# Altium footprint library Through Hole Resistors.PcbLib: 1 footprints
Each footprint in its own frame and in the unit in brackets; x right, y up, seen from the top. Pads: shape width x height; smd on the part's side, far side on the other; paste and mask are expansions set on the pad; w line width, h text height; cw(c..) or ccw(c..) is an arc to the next point about the centre after c.
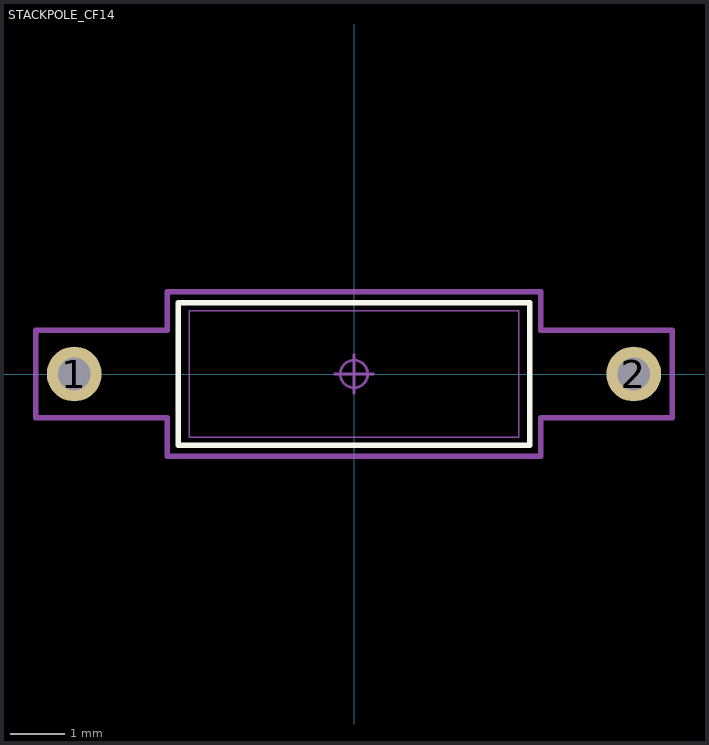
[diagram p0: the footprint, top view; thin cyan lines are the x and y axes]

## STACKPOLE_CF14 [mm]
pads (2):
  round 1 hole 0.6 mask+0.04: 1(-5.1,0) 2(5.1,0)
Top Overlay:
  lines w0.1: -3.2,-1.3 3.2,-1.3 3.2,1.3 -3.2,1.3 -3.2,-1.3
Mechanical 1:
  lines w0.025: -3,-1.15 -3,1.15 3,1.15 3,-1.15 -3,-1.15
Mechanical 15:
  circle w0.05: c0,0 r0.25
  lines w0.05: -0.35,0 0.35,0 ; 0,-0.35 0,0.35
  lines w0.1: -5.8,-0.8 -5.8,0.8 -3.4,0.8 -3.4,1.5 3.4,1.5 3.4,0.8 5.8,0.8 5.8,-0.8 3.4,-0.8 3.4,-1.5 -3.4,-1.5 -3.4,-0.8 -5.8,-0.8
3D body "RES-0.25W-H-CF.stp": height 2.69, standoff -2.5, extent -5.353,-1.297 5.355,1.298